# Altium schematic symbol library normalpot.SchLib: 1 symbol
Pins are listed as number, name and electrical type; pins without a type are passive.

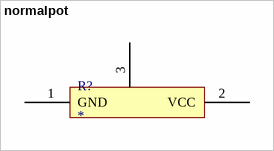
[diagram p0: symbol normalpot]

## normalpot
designator R?
footprint normalpot
pins: 1 GND, 2 VCC, 3 OUT